# Altium footprint library HX711.PCBLIB: 1 footprints
Each footprint in its own frame and in the unit in brackets; x right, y up, seen from the top. Pads: shape width x height; smd on the part's side, far side on the other; paste and mask are expansions set on the pad; w line width, h text height; cw(c..) or ccw(c..) is an arc to the next point about the centre after c.
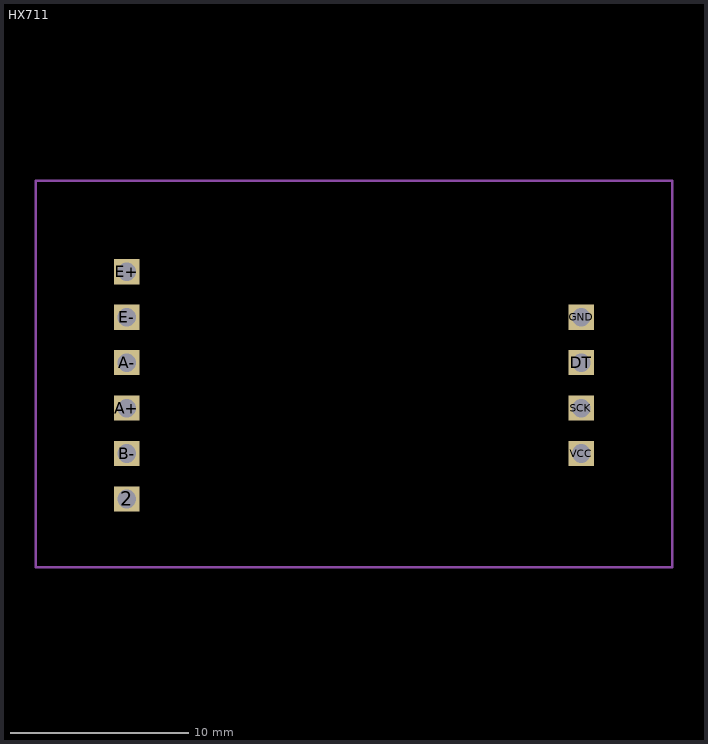
[diagram p0: the footprint, top view; thin cyan lines are the x and y axes]

## HX711 [mm]
pads (10):
  rect 1.408x1.408 / inner round 1.301 / far side rect 1.408x1.408 hole 1.04: 2(8.89,16.51) A+(8.89,21.59) A-(8.89,24.13) B-(8.89,19.05) DT(34.29,24.13) E+(8.89,29.21) E-(8.89,26.67) GND(34.29,26.67) SCK(34.29,21.59) VCC(34.29,19.05)
tDocu:
  lines w0.127: 3.81,12.7 3.81,34.29 39.37,34.29 39.37,12.7 3.81,12.7
tPlace:
  lines w0.127: 3.81,12.7 3.81,34.29 39.37,34.29 39.37,12.7 3.81,12.7
  text "NAME" at 6.35,35.56 h2.76
  text "VALUE" at 6.35,8.89 h2.76
  text "HX711" at 16.51,22.86 h3.94
3D body "SSW-106-01-T-S-002.stp": height 8.51, standoff -2.64, extent 7.62,14.986 10.033,30.734
3D body "SSQ-104-01-T-S-LL.stp": height 8.51, standoff -2.64, extent 33.084,17.526 35.496,28.194